# Altium schematic symbol library DIP8.SchLib: 1 symbol
Pins are listed as number, name and electrical type; pins without a type are passive.

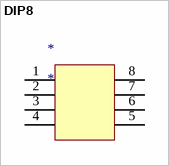
[diagram p0: symbol DIP8]

## DIP8
designator *
pins: 1 14, 2, 3, 4, 5, 6, 7, 8